# Altium footprint library MOLEX_1726750813.PcbLib: 1 footprints
Each footprint in its own frame and in the unit in brackets; x right, y up, seen from the top. Pads: shape width x height; smd on the part's side, far side on the other; paste and mask are expansions set on the pad; w line width, h text height; cw(c..) or ccw(c..) is an arc to the next point about the centre after c.
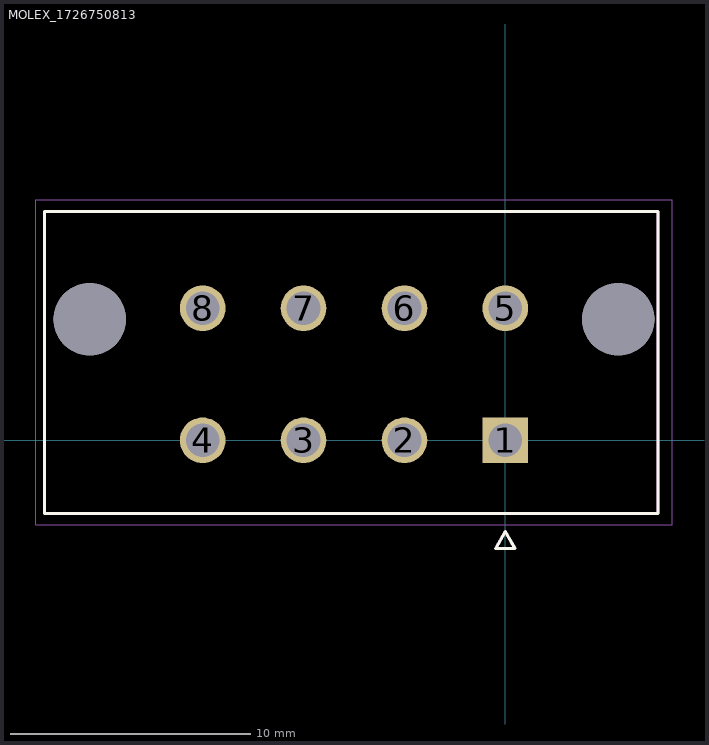
[diagram p0: the footprint, top view; thin cyan lines are the x and y axes]

## MOLEX_1726750813 [mm]
height 12.8
pads (10):
  rect 1.9x1.9 / inner round 1.9 / far side rect 1.9x1.9 hole 1.4 mask+0.076: 1(0,0)
  round 1.9 hole 1.4 mask+0.076: 2(-4.2,0) 3(-8.4,0) 4(-12.6,0) 5(0,5.5) 6(-4.2,5.5) 7(-8.4,5.5) 8(-12.6,5.5)
  round 3 hole 3 unplated mask+0.076: ""(-17.3,5.04) ""(4.7,5.04)
Top Overlay:
  lines w0.127: -19.177,-3.048 -19.177,3.22 -19.177,9.525 6.35,9.525 6.35,3.22 6.35,-3.048 -19.177,-3.048 ; -0.4,-4.497 0.4,-4.497 0,-3.797 -0.4,-4.497
Mechanical 13:
  lines w0.127: -0.4,-4.497 0,-3.797 ; -19.177,-3.048 -19.177,9.525 6.35,9.525 6.35,-3.048 -19.177,-3.048
  text "PTH D1.40 +/- 0.05" at -18.689,-6.5 h0.5
  text "NPTH D3.00 +/- 0.05" at -18.689,-7.5 h0.5
Mechanical 15:
  lines w0.05: -19.545,-3.52 -19.545,10.02 6.945,10.02 6.945,-3.52 -19.545,-3.52
3D body "1726750813.stp": height 12.8, standoff -3.5, extent -18.739,-2.286 6.039,8.714